# Altium schematic symbol library IC OpAmp.SchLib: 12 symbols
Pins are listed as number, name and electrical type; pins without a type are passive.

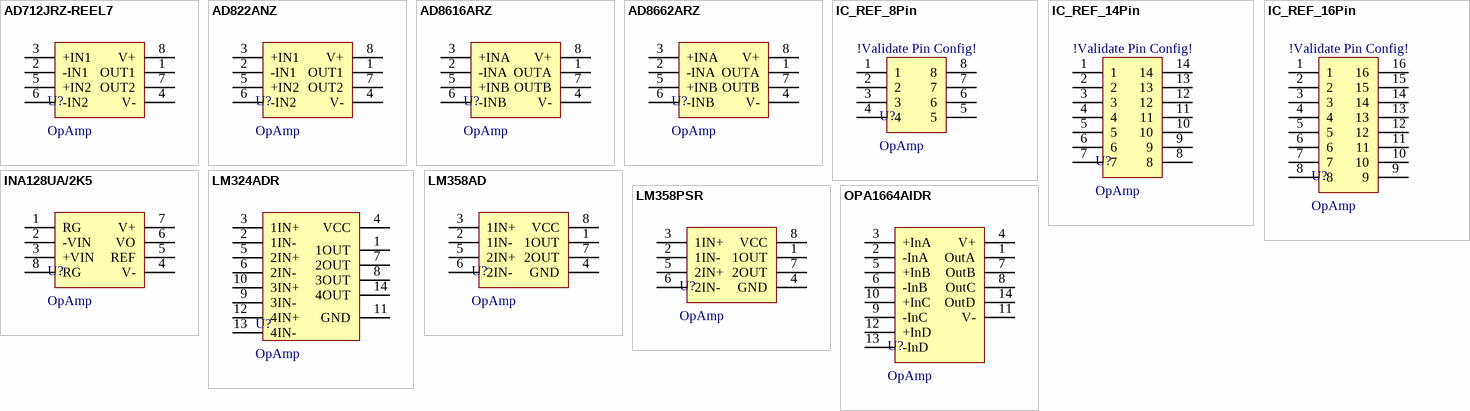
[diagram p0: symbols AD712JRZ-REEL7 to OPA1664AIDR]

## AD712JRZ-REEL7
designator U?, comment OpAmp
IC OPAMP JFET 4MHZ 8SOIC; ManufacturerReference: AD712JRZ-REEL7; Manufacturer: Analog Devices Inc.; InventoryNumber: IC138; Distributor: Digikey; DistributorReference: AD712JRZ-REEL7CT-ND; PackageReference: 8SOIC-3.9mmWidth
footprint 8SOIC-3.9mmWidth (SOIC, 8-Leads, Body 4.90x3.90mm, Pitch 1.27mm, IPC High Density)
pins: 1 OUT1, 2 -IN1, 3 +IN1, 4 V-, 5 +IN2, 6 -IN2, 7 OUT2, 8 V+

## AD822ANZ
designator U?, comment OpAmp
IC OPAMP GP 1.9MHZ RRO 8DIP; ManufacturerReference: AD822ANZ; Manufacturer: Analog Devices Inc.; InventoryNumber: IC137; Distributor: Digikey; DistributorReference: AD822ANZ-ND; PackageReference: 8DIP-7.62mmWidth
footprint 8-DIP-7.62mmWidth Infineon Technologies (7.62mmWidth Infineon Technologies)
pins: 1 OUT1, 2 -IN1, 3 +IN1, 4 V-, 5 +IN2, 6 -IN2, 7 OUT2, 8 V+

## AD8616ARZ
designator U?, comment OpAmp
IC OPAMP GP 24MHZ RRO 8SOIC; ManufacturerReference: AD8616ARZ; Manufacturer: Analog Devices Inc.; InventoryNumber: IC136; Distributor: Digikey; DistributorReference: AD8616ARZ-ND; PackageReference: 8SOIC-3.9mmWidth
footprint 8SOIC-3.9mmWidth (SOIC, 8-Leads, Body 4.90x3.90mm, Pitch 1.27mm, IPC High Density)
pins: 1 OUTA, 2 -INA, 3 +INA, 4 V-, 5 +INB, 6 -INB, 7 OUTB, 8 V+

## AD8662ARZ
designator U?, comment OpAmp
IC OPAMP GP 4MHZ RRO 8SOIC; ManufacturerReference: AD8662ARZ; Manufacturer: Analog Devices Inc.; InventoryNumber: IC133; Distributor: Digikey; DistributorReference: AD8662ARZ-ND; PackageReference: 8SOIC-3.9mmWidth
footprint 8SOIC-3.9mmWidth (SOIC, 8-Leads, Body 4.90x3.90mm, Pitch 1.27mm, IPC High Density)
pins: 1 OUTA, 2 -INA, 3 +INA, 4 V-, 5 +INB, 6 -INB, 7 OUTB, 8 V+

## IC_REF_8Pin
designator U?, comment OpAmp
Distributor: Digikey; DistributorReference: *; InventoryNumber: *; PackageReference: *; ManufacturerReference: *; Manufacturer: *
pins: 1, 2, 3, 4, 5, 6, 7, 8
text: !Validate Pin Config!

## IC_REF_14Pin
designator U?, comment OpAmp
Distributor: Digikey; DistributorReference: *; InventoryNumber: *; PackageReference: *; ManufacturerReference: *; Manufacturer: *
pins: 1, 2, 3, 4, 5, 6, 7, 8, 9, 10, 11, 12, 13, 14
text: !Validate Pin Config!

## IC_REF_16Pin
designator U?, comment OpAmp
Distributor: Digikey; DistributorReference: *; InventoryNumber: *; PackageReference: *; ManufacturerReference: *; Manufacturer: *
pins: 1, 2, 3, 4, 5, 6, 7, 8, 9, 10, 11, 12, 13, 14, 15, 16
text: !Validate Pin Config!

## INA128UA/2K5
designator U?, comment OpAmp
IC OPAMP INSTR 1.3MHZ 8SOIC; ManufacturerReference: INA128UA/2K5; Manufacturer: Texas Instruments; InventoryNumber: IC135; Distributor: Digikey; DistributorReference: 296-26057-1-ND; PackageReference: 8SOIC-3.9mmWidth
footprint 8SOIC-3.9mmWidth (SOIC, 8-Leads, Body 4.90x3.90mm, Pitch 1.27mm, IPC High Density)
pins: 1 RG, 2 -VIN, 3 +VIN, 4 V-, 5 REF, 6 VO, 7 V+, 8 RG

## LM324ADR
designator U?, comment OpAmp
IC OPAMP GP 1.2MHZ 14SOIC; ManufacturerReference: LM324ADR; Manufacturer: Texas Instruments; InventoryNumber: IC223; Distributor: Digikey; DistributorReference: 296-9540-1-ND; PackageReference: 14SOIC-3.9mmWidth
footprint 14SOIC-3.9mmWidth ON Semiconductor (SOIC, 14-Leads, Body 8.56x3.98mm, Pitch 1.27mm, IPC High Density)
pins: 1 1OUT, 2 1IN-, 3 1IN+, 4 VCC, 5 2IN+, 6 2IN-, 7 2OUT, 8 3OUT, 9 3IN-, 10 3IN+, 11 GND, 12 4IN+, 13 4IN-, 14 4OUT

## LM358AD
designator U?, comment OpAmp
IC OPAMP GP 700KHZ 8SOIC; ManufacturerReference: LM358AD; Manufacturer: Texas Instruments; InventoryNumber: IC212; Distributor: Digikey; DistributorReference: 296-9553-5-ND; PackageReference: 8SOIC-3.9mmWidth
footprint 8SOIC-3.9mmWidth (SOIC, 8-Leads, Body 4.90x3.90mm, Pitch 1.27mm, IPC High Density)
pins: 1 1OUT, 2 1IN-, 3 1IN+, 4 GND, 5 2IN+, 6 2IN-, 7 2OUT, 8 VCC

## LM358PSR
designator U?, comment OpAmp
IC OPAMP GP 700KHZ 8SO; ManufacturerReference: LM358PSR; Manufacturer: Texas Instruments; InventoryNumber: IC218; Distributor: Digikey; DistributorReference: 296-1396-1-ND; PackageReference: 8SOIC-5.3mmWidth
footprint 8SOIC-5.3mmWidth Texas Instruments (SOIC, 8-Leads, Body 6.20x5.30mm, Pitch 1.27mm, IPC High Density)
pins: 1 1OUT, 2 1IN-, 3 1IN+, 4 GND, 5 2IN+, 6 2IN-, 7 2OUT, 8 VCC

## OPA1664AIDR
designator U?, comment OpAmp
IC OPAMP AUDIO 22MHZ RRO 14SOIC; ManufacturerReference: OPA1664AIDR; Manufacturer: Texas Instruments; InventoryNumber: IC1 34; Distributor: Digikey; DistributorReference: 296-35039-1-ND; PackageReference: 14SOIC-3.9mmWidth
footprint 14SOIC-3.9mmWidth ON Semiconductor (SOIC, 14-Leads, Body 8.56x3.98mm, Pitch 1.27mm, IPC High Density)
pins: 1 OutA, 2 -InA, 3 +InA, 4 V+, 5 +InB, 6 -InB, 7 OutB, 8 OutC, 9 -InC, 10 +InC, 11 V-, 12 +InD, 13 -InD, 14 OutD